# Altium schematic symbol library CONN_5X_68000-105HTLF.SchLib: 1 symbol
Pins are listed as number, name and electrical type; pins without a type are passive.

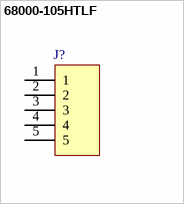
[diagram p0: symbol 68000-105HTLF]

## 68000-105HTLF
designator J?
68000-105HTLF-B/S SR HDR 1*5; Manufacturer 1: Amphenol Communication Solutions; Geometry.Height: 8.58mm; Manufacturer Part Number 1: 68000-105HTLF; Datasheet Link: https://cdn.amphenol-cs.com/media/wysiwyg/files/drawing/68000.pdf; Supplier 1: DigiKey; Supplier Part Number 1: 609-68000-105HTLF-ND; Supplier 2: Mouser; Supplier Part Number 2: 649-68000-105HTLF
footprint HDRV5W67P0X254_1X5_1270X241X858P
pins: 1, 2, 3, 4, 5